# Altium footprint library muRata.PcbLib: 7 footprints
Each footprint in its own frame and in the unit in brackets; x right, y up, seen from the top. Pads: shape width x height; smd on the part's side, far side on the other; paste and mask are expansions set on the pad; w line width, h text height; cw(c..) or ccw(c..) is an arc to the next point about the centre after c.
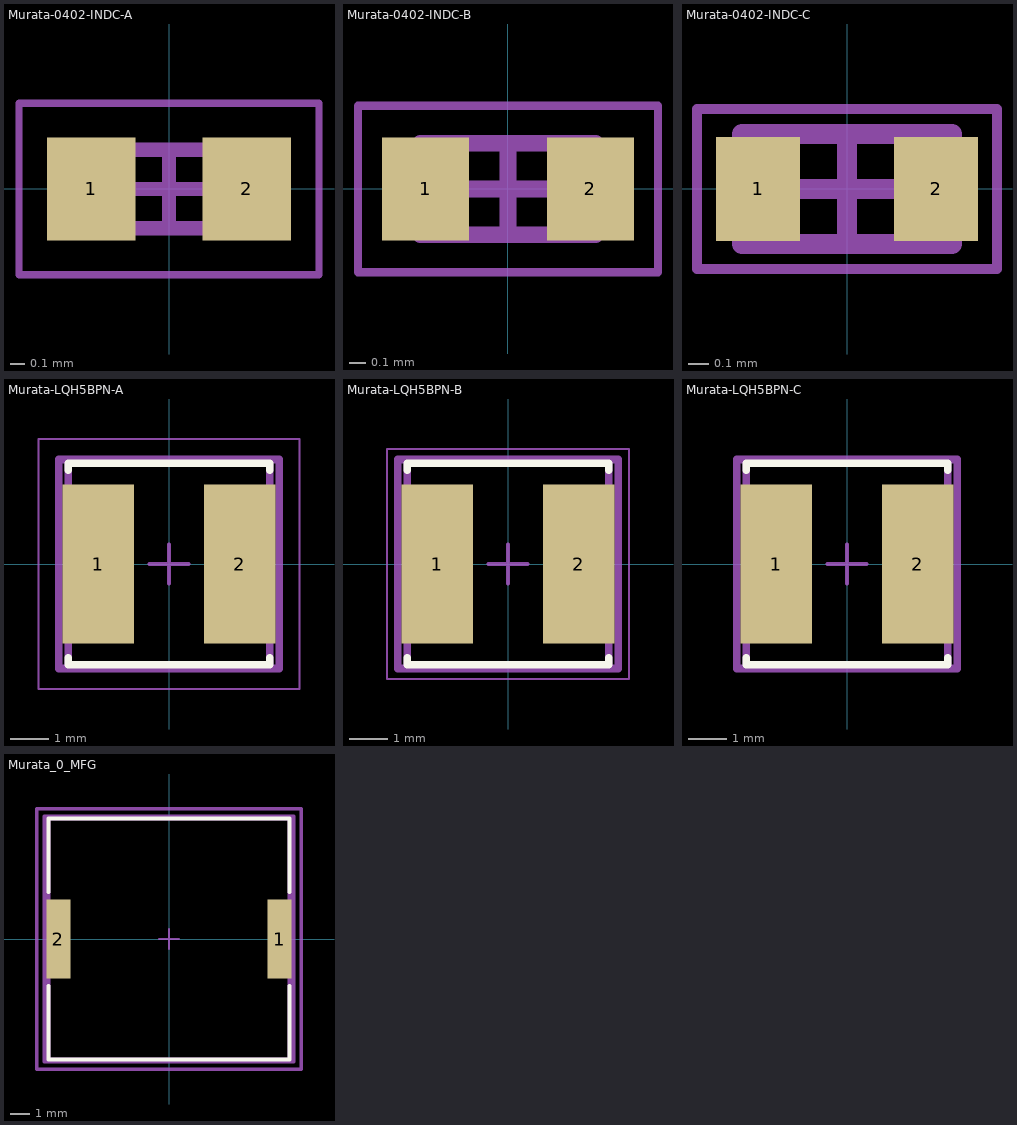
[diagram p0: the footprints below, top view; thin cyan lines are the x and y axes]

## Murata-0402-INDC-A [mm] "Chip Inductor, 2-Leads, Body 1.00x0.50mm, IPC Low Density"
height 0.55
pads (2):
  rect 0.62x0.72 smd: 1(-0.545,0) 2(0.545,0)
Mechanical 13:
  lines w0.1: -0.525,-0.275 0.525,-0.275 0.525,0.275 -0.525,0.275 -0.525,-0.275
Mechanical 15:
  lines w0.05: -1.05,-0.6 1.05,-0.6 1.05,0.6 -1.05,0.6 -1.05,-0.6
  lines w0.1: -0.275,0 0.275,0 ; 0,-0.275 0,0.275
3D body "Murata-0402-INDC-A.step": height 0.55, standoff 0, extent -0.525,-0.275 0.525,0.275

## Murata-0402-INDC-B [mm] "Chip Inductor, 2-Leads, Body 1.00x0.50mm, IPC Medium Density"
height 0.55
pads (2):
  rect 0.52x0.62 smd: 1(-0.495,0) 2(0.495,0)
Mechanical 13:
  lines w0.1: -0.525,-0.275 0.525,-0.275 0.525,0.275 -0.525,0.275 -0.525,-0.275
Mechanical 15:
  lines w0.05: -0.9,-0.5 0.9,-0.5 0.9,0.5 -0.9,0.5 -0.9,-0.5
  lines w0.1: -0.275,0 0.275,0 ; 0,-0.275 0,0.275
3D body "Murata-0402-INDC-B.step": height 0.55, standoff 0, extent -0.525,-0.275 0.525,0.275

## Murata-0402-INDC-C [mm] "Chip Inductor, 2-Leads, Body 1.00x0.50mm, IPC High Density"
height 0.55
pads (2):
  rect 0.42x0.52 smd: 1(-0.445,0) 2(0.445,0)
Mechanical 13:
  lines w0.1: -0.525,-0.275 0.525,-0.275 0.525,0.275 -0.525,0.275 -0.525,-0.275
Mechanical 15:
  lines w0.05: -0.75,-0.4 0.75,-0.4 0.75,0.4 -0.75,0.4 -0.75,-0.4
  lines w0.1: -0.275,0 0.275,0 ; 0,-0.275 0,0.275
3D body "Murata-0402-INDC-C.step": height 0.55, standoff 0, extent -0.525,-0.275 0.525,0.275

## Murata-LQH5BPN-A [mm]
pads (2):
  rect 1.85x4.1 smd paste+0 mask+0: 1(-1.825,0) 2(1.825,0)
Top Overlay:
  lines w0.2: -2.6,-2.425 -2.6,-2.6 2.6,-2.6 2.6,-2.425 ; -2.6,2.425 -2.6,2.6 2.6,2.6 2.6,2.425
Mechanical 10:
  lines w0.2: -2.85,-2.7 -2.85,2.7 2.85,2.7 2.85,-2.7 -2.85,-2.7
  text ".Designator" at 0,0.188 h1
Mechanical 12:
  lines w0.2: -2.6,-2.6 -2.6,2.6 2.6,2.6 2.6,-2.6 -2.6,-2.6
Mechanical 15:
  lines w0.05: -3.375,-3.225 -3.375,3.225 3.375,3.225 3.375,-3.225 -3.375,-3.225
  lines w0.1: -0.5,0 0.5,0 ; 0,-0.5 0,0.5
3D body "Ind_Murata_LQH5BPN3R3NT0L_eec.STEP": height 0.25, standoff 0, extent -2.85,-2.7 2.85,2.7

## Murata-LQH5BPN-B [mm]
pads (2):
  rect 1.85x4.1 smd paste+0 mask+0: 1(-1.825,0) 2(1.825,0)
Top Overlay:
  lines w0.2: -2.6,-2.425 -2.6,-2.6 2.6,-2.6 2.6,-2.425 ; -2.6,2.425 -2.6,2.6 2.6,2.6 2.6,2.425
Mechanical 10:
  lines w0.2: -2.85,-2.7 2.85,-2.7 2.85,2.7 -2.85,2.7 -2.85,-2.7
  text ".Designator" at 0,0.188 h1
Mechanical 12:
  lines w0.2: -2.6,-2.6 2.6,-2.6 2.6,2.6 -2.6,2.6 -2.6,-2.6
Mechanical 15:
  lines w0.05: -3.125,-2.975 3.125,-2.975 3.125,2.975 -3.125,2.975 -3.125,-2.975
  lines w0.1: -0.5,0 0.5,0 ; 0,-0.5 0,0.5
3D body "Ind_Murata_LQH5BPN3R3NT0L_eec.STEP": height 0.25, standoff 0, extent -2.85,-2.7 2.85,2.7

## Murata-LQH5BPN-C [mm]
pads (2):
  rect 1.85x4.1 smd paste+0 mask+0: 1(-1.825,0) 2(1.825,0)
Top Overlay:
  lines w0.2: -2.6,-2.425 -2.6,-2.6 2.6,-2.6 2.6,-2.425 ; -2.6,2.425 -2.6,2.6 2.6,2.6 2.6,2.425
Mechanical 10:
  lines w0.2: -2.85,-2.7 -2.85,2.7 2.85,2.7 2.85,-2.7 -2.85,-2.7
  text ".Designator" at 0,0.188 h1
Mechanical 12:
  lines w0.2: -2.6,-2.6 -2.6,2.6 2.6,2.6 2.6,-2.6 -2.6,-2.6
Mechanical 15:
  lines w0.05: -2.85,-2.7 -2.85,2.7 2.85,2.7 2.85,-2.7 -2.85,-2.7
  lines w0.1: -0.5,0 0.5,0 ; 0,-0.5 0,0.5
3D body "Ind_Murata_LQH5BPN3R3NT0L_eec.STEP": height 0.25, standoff 0, extent -2.85,-2.7 2.85,2.7

## Murata_0_MFG [mm]
pads (2):
  rect 1.2x4 smd paste+0 mask+0: 1(5.6,0) 2(-5.6,0)
Top Overlay:
  lines w0.2: -6.1,-2.375 -6.1,-6.1 6.1,-6.1 6.1,-2.375 ; -6.1,2.375 -6.1,6.1 6.1,6.1 6.1,2.375
Mechanical 10:
  lines w0.2: -6.3,-6.2 6.3,-6.2 6.3,6.2 -6.3,6.2 -6.3,-6.2
  text ".Designator" at 0,0.188 h1
Mechanical 12:
  lines w0.2: -6.1,-6.1 6.1,-6.1 6.1,6.1 -6.1,6.1 -6.1,-6.1
Mechanical 15:
  lines w0.1: -0.5,0 0.5,0 ; 0,-0.5 0,0.5
  lines w0.2: -6.7,-6.6 6.7,-6.6 6.7,6.6 -6.7,6.6 -6.7,-6.6
3D body "Speak_Murata_PKLCS1212E4001-R1_eec.STEP": height 0.25, standoff 0, extent -6.3,-6.2 6.3,6.2